# Altium integrated library LM2596S.IntLib: 1 symbol
Pins are listed as number, name and electrical type; pins without a type are passive.

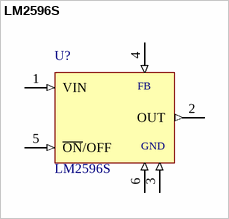
[diagram p0: symbol LM2596S]

## LM2596S
designator U?
Semiconductors and Actives; MF: Texas Instruments; SnapEDA_Link: https://www.snapeda.com/parts/LM2596S/Texas%20Instruments/view-part/?ref=snap; Price: None; MP: LM2596S; Availability: Unavailable; Package: None; Value: *
footprint LM2596S
pins: 1 VIN (in), 2 OUT (out), 3 GND (in), 4 FB (in), 5 ~{ON}/OFF (in), 6 GND@6 (in)